# EAGLE library part TWIG-7P-2.0 (library Connector)
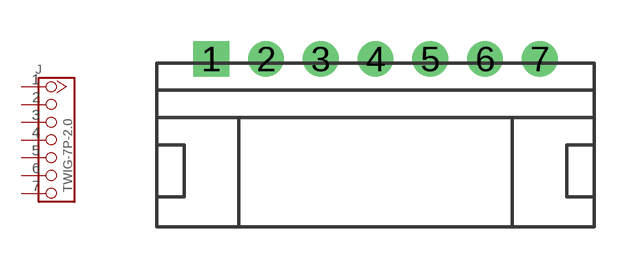
[diagram p39: symbol with the pads of 7P-2.0-90D; footprint 7P-2.0-90D]

Designator prefix J

## TWIG-7P-2.0  [7P-2.0-90D]
1  1
2  2
3  3
4  4
5  5
6  6
7  7

## Footprint 7P-2.0-90D (pad centres in mm)
drill 0.8 pad 1.3 square: 1 -6,3.15
drill 0.8 pad 1.3 round: 2 -4,3.15; 3 -2,3.15; 4 0,3.15; 5 2,3.15; 6 4,3.15; 7 6,3.15